# EAGLE library part FOX (library aggiunte)
FOXBOARD Un sistema linux embedded completo www.acmesystem.it
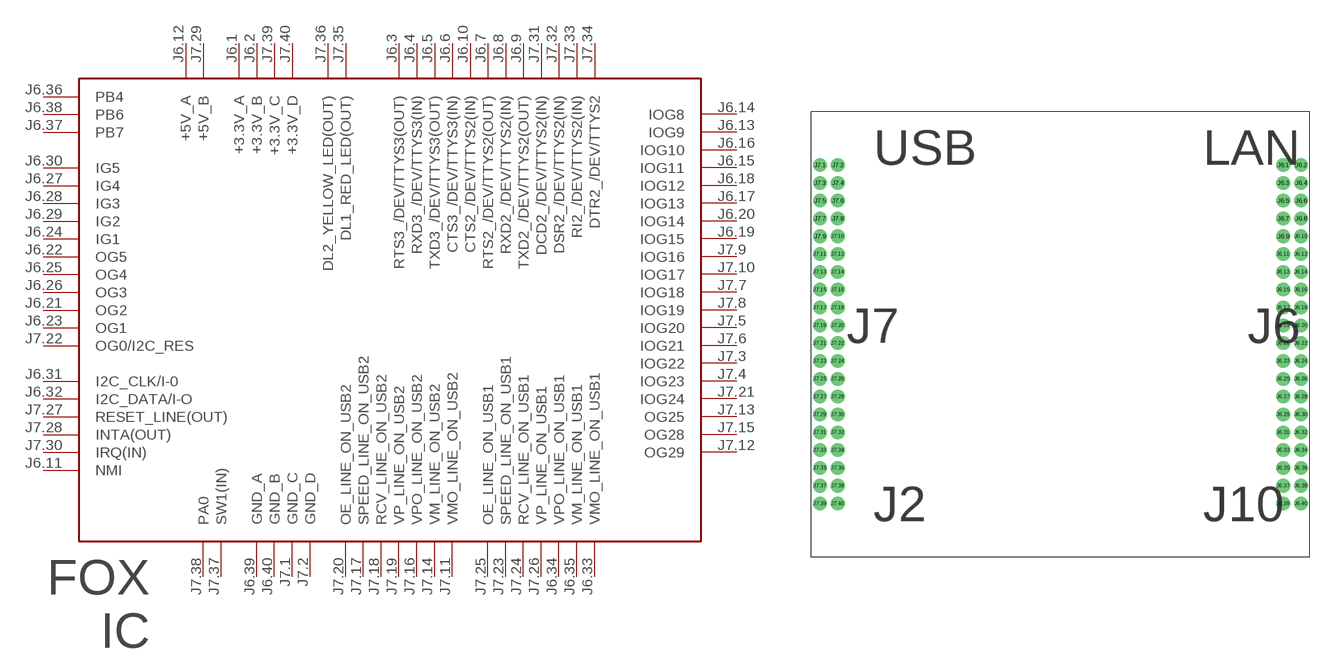
[diagram p3: symbol with the pads of FOX; footprint FOX]

Designator prefix IC

## FOX  [FOX]
J6.1  +3.3V_A  pas
J6.2  +3.3V_B  pas
J6.3  RTS3_/DEV/TTYS3(OUT)  pas
J6.4  RXD3_/DEV/TTYS3(IN)  pas
J6.5  TXD3_/DEV/TTYS3(OUT)  pas
J6.6  CTS3_/DEV/TTYS3(IN)  pas
J6.7  RTS2_/DEV/TTYS2(OUT)  pas
J6.8  RXD2_/DEV/TTYS2(IN)  pas
J6.9  TXD2_/DEV/TTYS2(OUT)  pas
J6.10  CTS2_/DEV/TTYS2(IN)  pas
J6.11  NMI  in
J6.12  +5V_A  pas
J6.13  IOG9
J6.14  IOG8
J6.15  IOG11
J6.16  IOG10
J6.17  IOG13
J6.18  IOG12
J6.19  IOG15
J6.20  IOG14
J6.21  OG2  out
J6.22  OG5  out
J6.23  OG1  out
J6.24  IG1  in
J6.25  OG4  out
J6.26  OG3  out
J6.27  IG4  in
J6.28  IG3  in
J6.29  IG2  in
J6.30  IG5  in
J6.31  I2C_CLK/I-0  out
J6.32  I2C_DATA/I-O
J6.33  VMO_LINE_ON_USB1  pas
J6.34  VPO_LINE_ON_USB1  pas
J6.35  VM_LINE_ON_USB1  pas
J6.36  PB4
J6.37  PB7
J6.38  PB6
J6.39  GND_A  pas
J6.40  GND_B  pas
J7.1  GND_C  pas
J7.2  GND_D  pas
J7.3  IOG22
J7.4  IOG23
J7.5  IOG20
J7.6  IOG21
J7.7  IOG18
J7.8  IOG19
J7.9  IOG16
J7.10  IOG17
J7.11  VMO_LINE_ON_USB2  nc
J7.12  OG29  out
J7.13  OG25  out
J7.14  VM_LINE_ON_USB2  pas
J7.15  OG28  out
J7.16  VPO_LINE_ON_USB2  pas
J7.17  SPEED_LINE_ON_USB2  pas
J7.18  RCV_LINE_ON_USB2  pas
J7.19  VP_LINE_ON_USB2  pas
J7.20  OE_LINE_ON_USB2  pas
J7.21  IOG24
J7.22  OG0/I2C_RES  out
J7.23  SPEED_LINE_ON_USB1  pas
J7.24  RCV_LINE_ON_USB1  pas
J7.25  OE_LINE_ON_USB1  pas
J7.26  VP_LINE_ON_USB1  pas
J7.27  RESET_LINE(OUT)  out
J7.28  INTA(OUT)  out
J7.29  +5V_B  pas
J7.30  IRQ(IN)  in
J7.31  DCD2_/DEV/TTYS2(IN)  in
J7.32  DSR2_/DEV/TTYS2(IN)  in
J7.33  RI2_/DEV/TTYS2(IN)  in
J7.34  DTR2_/DEV/TTYS2  out
J7.35  DL1_RED_LED(OUT)  out
J7.36  DL2_YELLOW_LED(OUT)  out
J7.37  SW1(IN)  in
J7.38  PA0
J7.39  +3.3V_C  out
J7.40  +3.3V_D  out

## Footprint FOX (pad centres in mm)
FOXBOARD Un sistema linux embedded completo www.acmesystem.it
drill 0.8 pad 1.93 round: J6.1 67.31,0; J6.2 69.85,0; J6.3 67.31,-2.54; J6.4 69.85,-2.54; J6.5 67.31,-5.08; J6.6 69.85,-5.08; J6.7 67.31,-7.62; J6.8 69.85,-7.62; J6.9 67.31,-10.16; J6.10 69.85,-10.16; J6.11 67.31,-12.7; J6.12 69.85,-12.7; J6.13 67.31,-15.24; J6.14 69.85,-15.24; J6.15 67.31,-17.78; J6.16 69.85,-17.78; J6.17 67.31,-20.32; J6.18 69.85,-20.32; J6.19 67.31,-22.86; J6.20 69.85,-22.86; J6.21 67.31,-25.4; J6.22 69.85,-25.4; J6.23 67.31,-27.94; J6.24 69.85,-27.94; J6.25 67.31,-30.48; J6.26 69.85,-30.48; J6.27 67.31,-33.02; J6.28 69.85,-33.02; J6.29 67.31,-35.56; J6.30 69.85,-35.56; J6.31 67.31,-38.1; J6.32 69.85,-38.1; J6.33 67.31,-40.64; J6.34 69.85,-40.64; J6.35 67.31,-43.18; J6.36 69.85,-43.18; J6.37 67.31,-45.72; J6.38 69.85,-45.72; J6.39 67.31,-48.26; J6.40 69.85,-48.26; J7.1 1.27,0; J7.2 3.81,0; J7.3 1.27,-2.54; J7.4 3.81,-2.54; J7.5 1.27,-5.08; J7.6 3.81,-5.08; J7.7 1.27,-7.62; J7.8 3.81,-7.62; J7.9 1.27,-10.16; J7.10 3.81,-10.16; J7.11 1.27,-12.7; J7.12 3.81,-12.7; J7.13 1.27,-15.24; J7.14 3.81,-15.24; J7.15 1.27,-17.78; J7.16 3.81,-17.78; J7.17 1.27,-20.32; J7.18 3.81,-20.32; J7.19 1.27,-22.86; J7.20 3.81,-22.86; J7.21 1.27,-25.4; J7.22 3.81,-25.4; J7.23 1.27,-27.94; J7.24 3.81,-27.94; J7.25 1.27,-30.48; J7.26 3.81,-30.48; J7.27 1.27,-33.02; J7.28 3.81,-33.02; J7.29 1.27,-35.56; J7.30 3.81,-35.56; J7.31 1.27,-38.1; J7.32 3.81,-38.1; J7.33 1.27,-40.64; J7.34 3.81,-40.64; J7.35 1.27,-43.18; J7.36 3.81,-43.18; J7.37 1.27,-45.72; J7.38 3.81,-45.72; J7.39 1.27,-48.26; J7.40 3.81,-48.26